# Altium schematic symbol library IC_TL770x.SchLib: 1 symbol
Pins are listed as number, name and electrical type; pins without a type are passive.

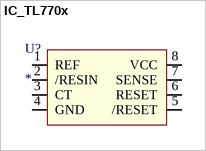
[diagram p0: symbol IC_TL770x]

## IC_TL770x
designator U?
pins: 1 REF, 2 /RESIN, 3 CT, 4 GND, 5 /RESET, 6 RESET, 7 SENSE, 8 VCC